# Altium schematic symbol library CONN1X4.Schlib: 1 symbol
Pins are listed as number, name and electrical type; pins without a type are passive.

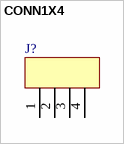
[diagram p0: symbol CONN1X4]

## CONN1X4
designator J?
pins: 1, 2, 3, 4
1 alternate drawing of the same symbol